# Altium schematic symbol library PCI_Express_x1_MC.SCHLIB: 1 symbol
Pins are listed as number, name and electrical type; pins without a type are passive.

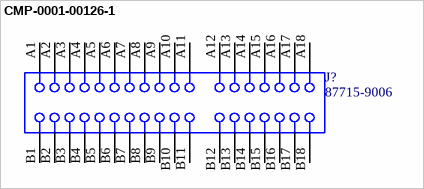
[diagram p0: symbol CMP-0001-00126-1]

## CMP-0001-00126-1
designator J?, comment 87715-9006
Board-to-Board Connector, PTH, Vertical, Pitch 1.00mm, 36-Position; Mating Connector: PCIeX1-GF-2D-1000-1K-O36; ClassName: Board Template Connector; Package Reference: BTB1-00-2V36; Component Kind: Standard; Publisher: Altium; Datasheet Version: Jul-2007
footprint BTB1-00-2V36 (Board-to-Board Connector, PTH, Vertical, Pitch 1.00mm, 36-Position)
pins: A1, A2, A3, A4, A5, A6, A7, A8, A9, A10, A11, A12, A13, A14, A15, A16, A17, A18, B1, B2, B3, B4, B5, B6, B7, B8, B9, B10, B11, B12, B13, B14, B15, B16, B17, B18